# Altium schematic symbol library Swage.SchLib: 218 symbols (part 5 of 5)
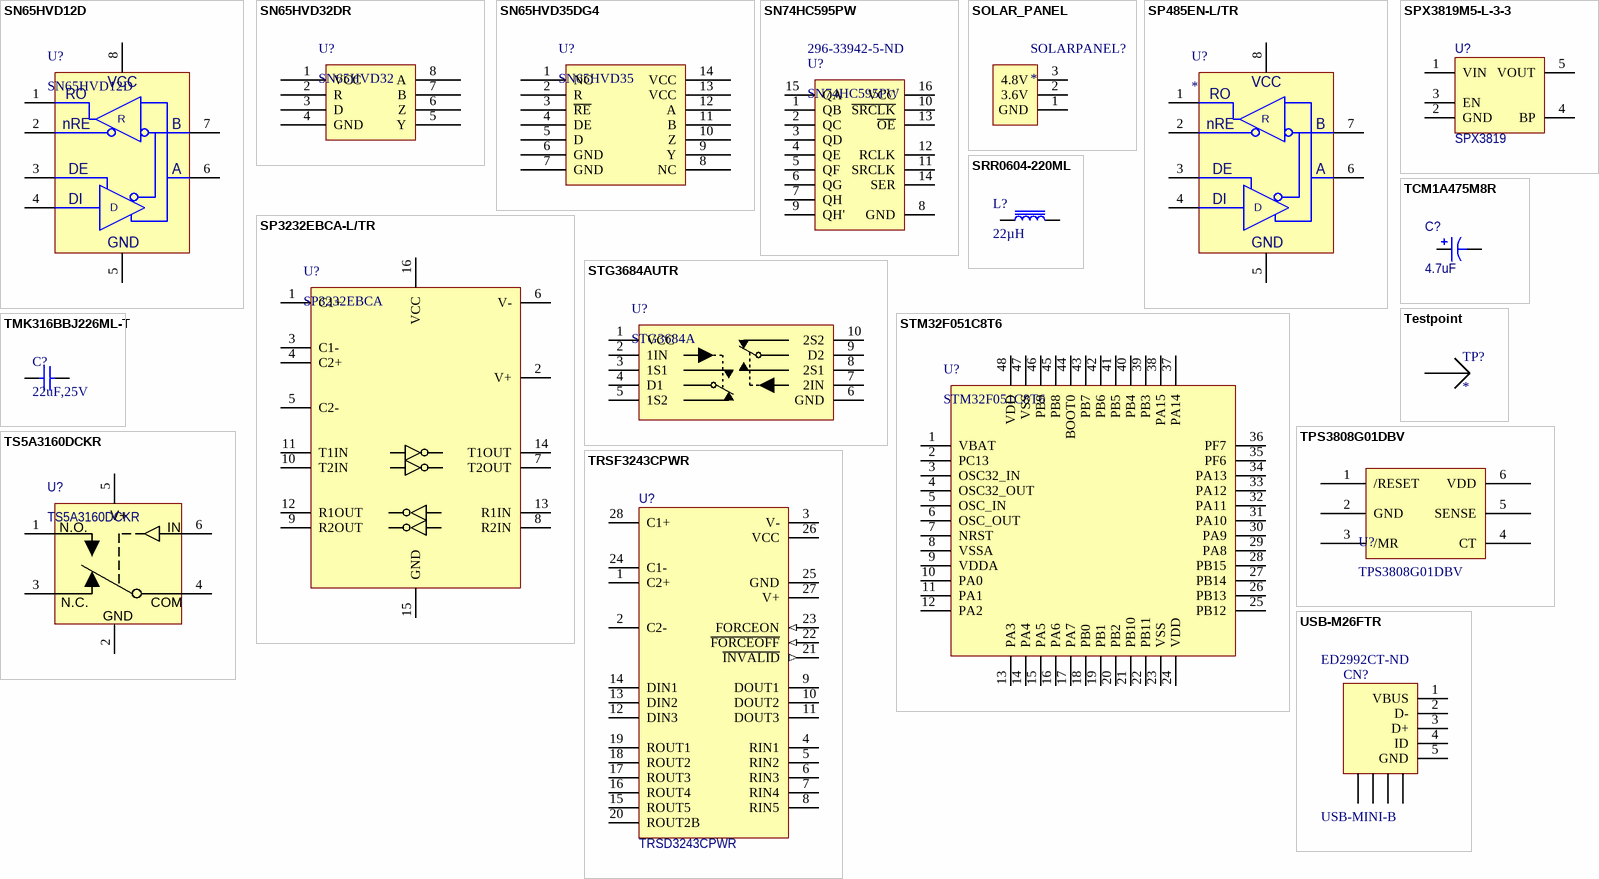
[diagram p9: symbols SN65HVD12D to USB-M26FTR]

## SN65HVD32DR
designator U?, comment SN65HVD32
IC DVR/RCVR RS-485 3.3V 8-SOIC; Manufacturer: Texas Instruments; Manufacturer Part Number: SN65HVD32DR; Number of Drivers/Receivers: 1/1; Protocol: RS422, RS485; Voltage - Supply: 3 V ~ 3.6 V; OPI_VID: xxxxx; Supplier 1: Digi-Key; RoHS: RoHS Compliant; Category: Integrated Circuits (ICs); Stock 1: 2500; Pricing 1: 2500=1.6226, 5000=1.5616, 12500=1.5128, 25000=1.464 (USD); Type: Transceiver; Mounting Type: Surface Mount; Package / Case: 8-SOIC (0.154", 3.90mm Width); Supplier Device Package: 8-SOIC; Packaging: Tape & Reel (TR); ComponentLink1URL: http://www.ti.com/lit/ds/symlink/sn65hvd30.pdf; ComponentLink1Description: http://www.ti.com/lit/ds/symlink/sn65hvd30.pdf; Supplier Part Number 1: 296-19627-2-ND
footprint SOIC127P580X153-8N (SOIC, 8-Leads, Body 5.0x4.0mm (max), Pitch 1.27mm, IPC Medium Density)
pins: 1 VCC, 2 R, 3 D, 4 GND, 5 Y, 6 Z, 7 B, 8 A

## SN65HVD35DG4
designator U?, comment SN65HVD35
IC RS485 DVR/RCVR 3.3V 14-SOIC; Manufacturer: Texas Instruments; Manufacturer Part Number: SN65HVD35DG4; Number of Drivers/Receivers: 1/1; Protocol: RS422, RS485; Voltage - Supply: 3 V ~ 3.6 V; OPI_VID: 101416; Supplier 1: Digi-Key; RoHS: RoHS Compliant; Category: Integrated Circuits (ICs); Stock 1: 0; Pricing 1: 200=3.0135 (USD); Type: Transceiver; Mounting Type: Surface Mount; Package / Case: 14-SOIC (0.154", 3.90mm Width); Supplier Device Package: 14-SOIC; Packaging: Tube; ComponentLink1URL: http://www.ti.com/lit/ds/symlink/sn65hvd30.pdf; ComponentLink1Description: http://www.ti.com/lit/ds/symlink/sn65hvd30.pdf; Supplier Part Number 1: SN65HVD35DG4-ND
footprint SOIC-14 (SOIC, 14-Leads, Body 8.65x3.90mm, Pitch 1.27mm, IPC Medium Density)
pins: 1 NC, 2 R, 3 ~{RE}, 4 DE, 5 D, 6 GND, 7 GND, 8 NC, 9 Y, 10 Z, 11 B, 12 A, 13 VCC, 14 VCC

## SN74HC595PW
designator U?  Supplier Part Number 1: 296-33942-5-ND
IC SHIFT REGISTER 8BIT 16-TSSOP; Manufacturer: Texas Instruments; Output Type: Tri-State; Number of Elements: 1; Number of Bits per Element: 8; Function: Serial to Parallel, Serial; Voltage - Supply: 2 V ~ 6 V; OPI_VID: 101424; Supplier 1: Digi-Key; Manufacturer Part Number: SN74HC595PW; RoHS: RoHS Compliant; Category: Integrated Circuits (ICs); Stock 1: 1742; Pricing 1: 1=0.75, 10=0.639, 100=0.4796, 250=0.41564, 500=0.3517, 1000=0.27177, 2500=0.24779, 5000=0.2318, 10000=0.21582 (CAD); Logic Type: Shift Register; Operating Temperature: -40°C ~ 85°C; Mounting Type: Surface Mount; Package / Case: 16-TSSOP (0.173", 4.40mm Width); Supplier Device Package: 16-TSSOP; Packaging: Tube; ComponentLink1URL: http://www.ti.com/lit/ds/symlink/sn74hc595.pdf; ComponentLink1Description: http://www.ti.com/lit/ds/symlink/sn74hc595.pdf
footprint TSOP65P640X120-16M (TSOP, 16-Leads, Body 5.1x4.5mm (max), Pitch 0.65mm, IPC Low Density)
pins: 1 QB, 2 QC, 3 QD, 4 QE, 5 QF, 6 QG, 7 QH, 8 GND (power), 9 QH', 10 ~{SRCLK}, 11 SRCLK, 12 RCLK, 13 ~{OE}, 14 SER, 15 QA, 16 VCC (power)

## SOLAR_PANEL
designator SOLARPANEL?
Solar Panel, Flexible, 3.6V and 4.8V footprints; Manufacturer: PowerFilm Solar; Manufacturer Part Number: MPT3.6-300; OPI_VID: 101345
footprint SOLAR_PANEL_FLEX (Solar Panel, Flexible, 3.6V and 4.8V footprints)
pins: 1 GND, 2 3.6V, 3 4.8V

## SP485EN-L/TR
designator U?
IC TXRX RS485 HALF DUPLEX 8NSOIC; Manufacturer: Exar Corporation; Manufacturer Part Number: SP485EN-L/TR; Number of Drivers/Receivers: 1/1; Voltage - Supply: 5V; OPI_VID: xxxxx; Supplier 1: Digi-Key; RoHS: RoHS Compliant; Category: Integrated Circuits (ICs); Stock 1: 5000; Pricing 1: 2500=0.4864, 5000=0.46208, 12500=0.44471, 25000=0.43081, 62500=0.41691 (CAD); Type: Transceiver; Protocol: RS485; Mounting Type: Surface Mount; Package / Case: 8-SOIC (0.154", 3.90mm Width); Supplier Device Package: 8-SOICN; Packaging: Tape & Reel (TR); ComponentLink1URL: http://www.exar.com/Common/Content/Document.ashx?id=20179; ComponentLink1Description: http://www.exar.com/Common/Content/Document.ashx?id=20179; Supplier Part Number 1: 1016-1829-2-ND
pins: 1 RO, 2 ~{RE}, 3 DE, 4 DI, 5 GND, 6 A, 7 B, 8 VCC
text: R; nRE; D

## SP3232EBCA-L/TR
designator U?, comment SP3232EBCA
IC TXRX RS232 ESD TRUE 16SSOP; Manufacturer: Exar Corporation; Manufacturer Part Number: SP3232EBCA-L/TR; Number of Drivers/Receivers: 2/2; Voltage - Supply: 3 V ~ 5.5 V; OPI_VID: 101413; Supplier 1: Digi-Key; RoHS: RoHS Compliant; Category: Integrated Circuits (ICs); Stock 1: 1500; Pricing 1: 1500=0.636, 3000=0.5936, 7500=0.56392, 10500=0.54272, 37500=0.52576, 75000=0.5088 (USD); Type: Transceiver; Protocol: RS232; Mounting Type: Surface Mount; Package / Case: 16-SSOP (0.209", 5.30mm Width); Supplier Device Package: 16-SSOP; Packaging: Tape & Reel (TR); ComponentLink1URL: http://www.exar.com/Common/Content/Document.ashx?id=632; ComponentLink1Description: http://www.exar.com/Common/Content/Document.ashx?id=632; Supplier Part Number 1: 1016-1797-2-ND
footprint SSOP-16 (SOP, 16-Leads, Body 6.20x5.30mm, Pitch 0.65mm, IPC Medium Density)
pins: 1 C1+, 2 V+ (power), 3 C1-, 4 C2+, 5 C2-, 6 V-, 7 T2OUT, 8 R2IN, 9 R2OUT, 10 T2IN, 11 T1IN, 12 R1OUT, 13 R1IN, 14 T1OUT, 15 GND (power), 16 VCC

## SPX3819M5-L-3-3
designator U?, comment SPX3819
IC REG LDO 3.3V 500MA LN SOT23-5; Manufacturer: Exar Corporation; Manufacturer Part Number: SPX3819M5-L-3-3; Regulator Topology: Positive Fixed; Voltage - Input: Up to 16V; Voltage - Dropout (Typical): 0.34V @ 500mA; Number of Regulators: 1; OPI_VID: xxxxx; Supplier 1: Digi-Key; Stock 1: 1052; Voltage - Output: 3.3V; Current - Output: 500mA; Current - Limit (Min): -; Operating Temperature: -40°C ~ 125°C; Mounting Type: Surface Mount; Package / Case: SC-74A, SOT-753; Supplier Device Package: SOT-23-5; Packaging: Tube; ComponentLink1URL: http://www.exar.com/Common/Content/Document.ashx?id=615; ComponentLink1Description: http://www.exar.com/Common/Content/Document.ashx?id=615; Supplier Part Number 1: 1016-1248-ND; RoHS: RoHS Compliant; Category: Integrated Circuits (ICs); Pricing 1: 1=1.02, 25=0.794, 100=0.6916, 250=0.60192, 500=0.51224, 1000=0.4098, 2500=0.37138, 5000=0.34577, 10000=0.33296 (CAD)
footprint SOT95P280X145-5N (SOT23, 5-Leads, Body 2.9x2.8mm (max), Pitch 0.95mm, IPC Medium Density)
pins: 1 VIN, 2 GND, 3 EN, 4 BP, 5 VOUT

## SRR0604-220ML
designator L?, comment 22µH
INDUCTOR PWR 22UH 20% SHIELD SMD; Manufacturer: Bourns Inc.; Manufacturer Part Number: SRR0604-220ML; Current: 900mA; Current - Saturation: 1.2A; Type: Ferrite Core; Shielding: Shielded; DC Resistance (DCR): 190 mOhm; Q @ Freq: 16 @ 2.52MHz; Frequency - Self Resonant: 25MHz; Material - Core: Ferrite; Frequency - Test: 1kHz; OPI_VID: 101323; Supplier 1: Digi-Key; RoHS: RoHS Compliant; Category: Inductors, Coils, Chokes; Stock 1: 0; Pricing 1: 1000=0.37682, 5000=0.36426, 10000=0.3517, 25000=0.33914 (CAD); Inductance: 22µH; Current - Temperature Rise: -; Tolerance: ±20%; Package / Case: 0.256" L x 0.256" W x 0.189" H (6.50mm x 6.50mm x 4.80mm); Mounting Type: Surface Mount; Packaging: Tape & Reel (TR); Operating Temperature: -40°C ~ 125°C; ComponentLink1URL: http://www.bourns.com/data/global/pdfs/SRR0604.pdf; ComponentLink1Description: http://www.bourns.com/data/global/pdfs/SRR0604.pdf; Supplier Part Number 1: SRR0604-220MLTR-ND
footprint IND-SRR0604
pins: A, B

## STG3684AUTR
designator U?, comment STG3684A
IC SWITCH DUAL SPDT 10QFN; Manufacturer: STMicroelectronics; Manufacturer Part Number: STG3684AUTR; Circuit: 2 x SPDT; On-State Resistance: 500 mOhm; Voltage Supply Source: Single Supply; Voltage - Supply, Single/Dual (±): 1.65 V ~ 4.3 V; Current - Supply: 50nA; OPI_VID: xxxxx; Supplier 1: Digi-Key; RoHS: RoHS Compliant; Category: Integrated Circuits (ICs); Stock 1: 3000; Pricing 1: 3000=0.27521, 6000=0.25623, 15000=0.24674, 30000=0.23725, 75000=0.23345, 150000=0.22776 (CAD); Function: Switch; Operating Temperature: -40°C ~ 85°C; Mounting Type: Surface Mount; Package / Case: 10-QFN; Supplier Device Package: 10-QFN (1.8x1.4); Packaging: Tape & Reel (TR); ComponentLink1URL: http://www.st.com/internet/com/TECHNICAL_RESOURCES/TECHNICAL_LITERATURE/DATASHEET/CD00060319.pdf; ComponentLink1Description: http://www.st.com/internet/com/TECHNICAL_RESOURCES/TECHNICAL_LITERATURE/DATASHEET/CD00060319.pdf; Supplier Part Number 1: 497-7982-2-ND
footprint DFN10L (2 x 2.3mm)
pins: 1 VCC, 2 1IN, 3 1S1, 4 D1, 5 1S2, 6 GND, 7 2IN, 8 2S1, 9 D2, 10 2S2

## STM32F051C8T6
designator U?
IC MCU 32BIT 64KB FLASH 48LQFP; Manufacturer: STMicroelectronics; Core Processor: ARM® Cortex™-M0; Core Size: 32-Bit; Speed: 48MHz; Connectivity: HDMI-CEC, I²C, IrDA, LIN, SPI, UART/USART; Peripherals: DMA, I²S, POR, PWM, WDT; Number of I /O: 39; Program Memory Size: 64KB (64K x 8); RAM Size: 8K x 8; Voltage - Supply (Vcc/Vdd): 2 V ~ 3.6 V; Data Converters: A/D 10x12b, D/A 1x12b; Oscillator Type: Internal; OPI_VID: 101360; Single Source: YES, 15 week lead time; Supplier 1: Digi-Key; Manufacturer Part Number: STM32F051C8T6; RoHS: RoHS Compliant; Category: Integrated Circuits (ICs); Stock 1: 197; Pricing 1: 1=3.74, 10=3.346, 25=3.0112, 100=2.7434, 250=2.47576, 500=2.22148, 1000=1.87354, 2500=1.77986, 5000=1.71295 (CAD); Program Memory Type: FLASH; EEPROM Size: -; Operating Temperature: -40°C ~ 85°C; Package / Case: 48-LQFP; Packaging: Tray; ComponentLink1URL: http://www.st.com/internet/com/TECHNICAL_RESOURCES/TECHNICAL_LITERATURE/DATA_BRIEF/DM00026694.pdf; ComponentLink1Description: http://www.st.com/internet/com/TECHNICAL_RESOURCES/TECHNICAL_LITERATURE/DATA_BRIEF/DM00026694.pdf; Supplier Part Number 1: 497-12893-ND
footprint LQFP48-7x7mm (TSQFP, 48-Leads, Body 9.2x9.2mm (max), Pitch 0.50mm, IPC Medium Density)
pins: 1 VBAT, 2 PC13, 3 OSC32_IN, 4 OSC32_OUT, 5 OSC_IN, 6 OSC_OUT, 7 NRST, 8 VSSA, 9 VDDA, 10 PA0, 11 PA1, 12 PA2, 13 PA3, 14 PA4, 15 PA5, 16 PA6, 17 PA7, 18 PB0, 19 PB1, 20 PB2, 21 PB10, 22 PB11, 23 VSS, 24 VDD, 25 PB12, 26 PB13, 27 PB14, 28 PB15, 29 PA8, 30 PA9, 31 PA10, 32 PA11, 33 PA12, 34 PA13, 35 PF6, 36 PF7, 37 PA14, 38 PA15, 39 PB3, 40 PB4, 41 PB5, 42 PB6, 43 PB7, 44 BOOT0, 45 PB8, 46 PB9, 47 VSS, 48 VDD

## TCM1A475M8R
designator C?, comment 4.7uF
CAP TANTALUM 4.7UF 10V 20% SMD; Manufacturer: Rohm Semiconductor; Manufacturer Size Code: M; Manufacturer Part Number: TCM1A475M8R; Category 1: Capacitors; Capacitance: 4.7µF; ESR (Equivalent Series Resistance): 9.000 Ohm; Type: Molded; OPI_VID: 101028; Supplier 1: Digi-Key; Supplier Part Number 1: 511-1496-2-ND; RoHS 1: RoHS Compliant; Description 1: CAP TANTALUM 4.7UF 10V 20% SMD; Stock 1: 116000; Pricing 1: 4000=0.223, 12000=0.174, 24000=0.165 (USD); Voltage - Rated: 10V; Tolerance: ±20%; Operating Temperature: -55°C ~ 125°C; Mounting Type: Surface Mount; Package / Case: 0603 (1608 Metric); Size / Dimension: 0.063" L x 0.033" W (1.60mm x 0.85mm); Height: 0.035" (0.90mm); Lead Spacing: -; Features: General Purpose; Packaging: Tape & Reel (TR); Lifetime @ Temp.: -; ComponentLink1URL: http://www.rohm.com/products/databook/tc/pdf/tc_m.pdf; ComponentLink1Description: http://www.rohm.com/products/databook/tc/pdf/tc_m.pdf
footprint CAPCP1608X09N (Chip Capacitor, 2-Leads, Body 1.6x0.8mm, IPC Medium Density)
pins: 1, 2

## Testpoint
designator TP?
THROUGH HOLE PCB TESTPOINT; OPI_VID: xxxxx
footprint TestPoint (Thru Hole Multilayer Testpoint)
pins: 1

## TMK316BBJ226ML-T
designator C?, comment 22uF,25V
CAP CER 22UF 25V 20% X5R 1206; Manufacturer: Taiyo Yuden; Manufacturer Part Number: TMK316BBJ226ML-T; Capacitance: 22µF; OPI_VID: 101407; Supplier 1: Digi-Key; Supplier Part Number 1: 587-3246-2-ND; RoHS: RoHS Compliant; Category: Capacitors; Stock 1: 44000; Pricing 1: 2000=0.12843, 4000=0.1204, 10000=0.11237, 14000=0.11036, 50000=0.10434, 100000=0.10033 (CAD); Voltage - Rated: 25V; Tolerance: ±20%; Temperature Coefficient: X5R; Mounting Type: Surface Mount, MLCC; Operating Temperature: -55°C ~ 85°C; Applications: General Purpose; Ratings: -; Package / Case: 1206 (3216 Metric); Size / Dimension: 0.126" L x 0.063" W (3.20mm x 1.60mm); Height - Seated (Max): -; Thickness (Max): 0.075" (1.90mm); Lead Spacing: -; Features: -; Packaging: Tape & Reel (TR); Lead Style: -; ComponentLink1URL: http://www.yuden.co.jp/ut/product/category/capacitor/TMK316BBJ226ML-T.pdf; ComponentLink1Description: http://www.yuden.co.jp/ut/product/category/capacitor/TMK316BBJ226ML-T.pdf
footprint RC1206 (1206 Footprint)
pins: 1, 2

## TPS3808G01DBV
designator U?
Low Quiescent Current, Programmable-Delay  Supervisory Circuit; Manufacturer: Texas Instruments; Manufacturer Part Number: TPS3808G01DBVR; Description 1: IC VOLT SUPERVISOR ADJ SOT23-6; Category 1: Integrated Circuits (ICs); Number of Voltages Monitored: 1; Output: Open Drain or Open Collector; Reset: Active Low; Reset Timeout: Adjustable/Selectable; OPI_VID: 101537; Supplier 1: Digi-Key; Supplier Part Number 1: 296-17188-1-ND; RoHS 1: RoHS Compliant; Stock 1: 20585; Pricing 1: 1=2.33, 10=2.103, 25=1.8836, 100=1.6938, 250=1.50396, 500=1.31416, 750=1.19004, 1000=0.91261 (CAD); Packaging: Cut Tape (CT); Type: Simple Reset/Power-On Reset; Voltage - Threshold: Adjustable/Selectable; Operating Temperature: -40°C ~ 125°C; Mounting Type: Surface Mount; Package / Case: SOT-23-6; Supplier Device Package: SOT-23-6; ComponentLink1URL: http://www.ti.com/lit/ds/symlink/tps3808g01.pdf; ComponentLink1Description: http://www.ti.com/lit/ds/symlink/tps3808g01.pdf
footprint SOT95P270X145-6N (SOT23, 6-Leads, Body 3.1x3.2mm (max), Pitch 0.95mm, IPC Medium Density)
pins: 1 /RESET, 2 GND, 3 /MR, 4 CT, 5 SENSE, 6 VDD

## TRSF3243CPWR
designator U?, comment TRSD3243CPWR
IC DVR/RCVR RS232 ESD 28TSSOP; Manufacturer: Texas Instruments; Manufacturer Part Number: TRSF3243CPWR; Number of Drivers/Receivers: 3/5; Voltage - Supply: 3 V ~ 5.5 V; OPI_VID: xxxxx; Supplier 1: Digi-Key; Supplier Part Number 1: 296-25102-1-ND; RoHS: RoHS Compliant; Category: Integrated Circuits (ICs); Stock 1: 1859; Pricing 1: 1=3.35, 25=2.5836, 100=2.3442, 250=2.105, 500=1.81796, 1000=1.53092 (CAD); Type: Line Transceiver; Protocol: RS232; Mounting Type: Surface Mount; Package / Case: 28-TSSOP (0.173", 4.40mm Width); Supplier Device Package: 28-TSSOP; Packaging: Cut Tape (CT); ComponentLink1URL: http://focus.ti.com/lit/ds/symlink/trsf3243.pdf; ComponentLink1Description: http://focus.ti.com/lit/ds/symlink/trsf3243.pdf
footprint TSOP65P640X120-28M (TSOP, 28-Leads, Body 9.8x4.5mm (max), Pitch 0.65mm, IPC Low Density)
pins: 1 C2+, 2 C2-, 3 V-, 4 RIN1, 5 RIN2, 6 RIN3, 7 RIN4, 8 RIN5, 9 DOUT1, 10 DOUT2, 11 DOUT3, 12 DIN3, 13 DIN2, 14 DIN1, 15 ROUT5, 16 ROUT4, 17 ROUT3, 18 ROUT2, 19 ROUT1, 20 ROUT2B, 21 ~{INVALID} (out), 22 ~{FORCEOFF} (in), 23 FORCEON (in), 24 C1-, 25 GND (power), 26 VCC, 27 V+ (power), 28 C1+

## TS5A3160DCKR
designator U?
IC SWITCH SPDT SC70-6; Manufacturer: Texas Instruments; Circuit: 1 x SPDT; On-State Resistance: 900 mOhm; Voltage Supply Source: Single Supply; Voltage - Supply, Single/Dual (±): 1.65 V ~ 5.5 V; Current - Supply: 10nA; OPI_VID: 101180; Supplier 1: Digi-Key; Supplier Part Number 1: 296-21190-2-ND; Manufacturer Part Number: TS5A3160DCKR; RoHS: RoHS Compliant; Category: Integrated Circuits (ICs); Stock 1: 3000; Pricing 1: 3000=0.23159, 6000=0.21665, 15000=0.20171, 30000=0.19104, 75000=0.18677, 150000=0.1793 (CAD); Function: Switch; Operating Temperature: -40°C ~ 85°C; Mounting Type: Surface Mount; Package / Case: 6-TSSOP, SC-88, SOT-363; Supplier Device Package: SC-70-6; Packaging: Tape & Reel (TR); ComponentLink1URL: http://www.ti.com/lit/ds/symlink/ts5a3160.pdf; ComponentLink1Description: http://www.ti.com/lit/ds/symlink/ts5a3160.pdf
footprint TS5A3160 (SOT23, 6-Leads, Body 2.2x2.4mm (max), Pitch 0.65mm, IPC Medium Density)
pins: 1 NO, 2 GND, 3 NC, 4, 5, 6
text: V+; N.O.; IN; N.C.; COM

## USB-M26FTR
designator CN?, comment USB-MINI-B  Supplier Part Number 1: ED2992CT-ND
CONN USB MINI B R/A SMD; Manufacturer: On Shore Technology Inc; Manufacturer Part Number: USB-M26FTR; Connector Type: USB - mini B; Number of Contacts: 5; Gender: Receptacle; OPI_VID: xxxxx; Specifications: -; Mounting Type: Surface Mount, Right Angle, Horizontal; Features: Board Guide, Solder Retention; Packaging: Digi-Reel®; Ingress Protection: -; ComponentLink1URL: http://www.on-shore.com/sites/default/files/manuals/USB-M2XFXX.pdf; ComponentLink1Description: http://www.on-shore.com/sites/default/files/manuals/USB-M2XFXX.pdf; RoHS: RoHS Compliant; Category: Connectors, Interconnects; Supplier 1: Digi-Key; Supplier 2: Digi-Key; Supplier Part Number 2: ED2992TR-ND
footprint USB-M2XFXX (Mini USB Connector SMT Board Mount B Type)
pins: 1 VBUS, 2 D-, 3 D+, 4 ID, 5 GND, 6 GND, 7 GND, 8 GND, 9 GND